# EAGLE library part RJ45_CONNECTOR (library Eagle_CAD_parts)
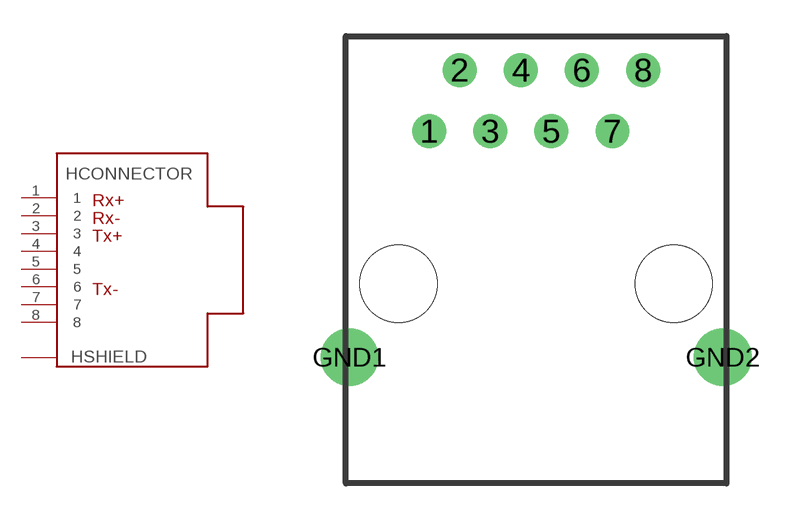
[diagram p104: symbol with the pads of RJ45_A_2004; footprint RJ45_A_2004]

Designator prefix H; gates CONNECTOR=RJ45_CONN SHIELD=PIN_2

## RJ45_CONNECTOR_A-2004-2-4-LPS-N-R (DIGIKEY_PART_NUMBER: AE10387-ND; MANUFACTURER_PART_NUMBER: A-2004-2-4-LPS-N-R)  [RJ45_A_2004]
1  CONNECTOR:1
2  CONNECTOR:2
3  CONNECTOR:3
4  CONNECTOR:4
5  CONNECTOR:5
6  CONNECTOR:6
7  CONNECTOR:7
8  CONNECTOR:8
GND1  SHIELD:S  pas
GND2  SHIELD:S  pas

## Footprint RJ45_A_2004 (pad centres in mm)
drill 0.9: 1 -4.445,-3.95; 2 -3.175,-1.41; 3 -1.905,-3.95; 4 -0.635,-1.41; 5 0.635,-3.95; 6 1.905,-1.41; 7 3.175,-3.95; 8 4.445,-1.41
drill 1.6: GND1 -7.75,-13.35; GND2 7.75,-13.35
hole 3.2 at 5.715,-10.3
hole 3.2 at -5.715,-10.3